# EAGLE library part XCV2000E_FG680 (library xilinx-xcv)
xcv2000e_fg680 edit this description Auto generated by make-symbol-device-package-bsdl.ulp Rev. 26 Source: xcv2000e_fg680.bsd
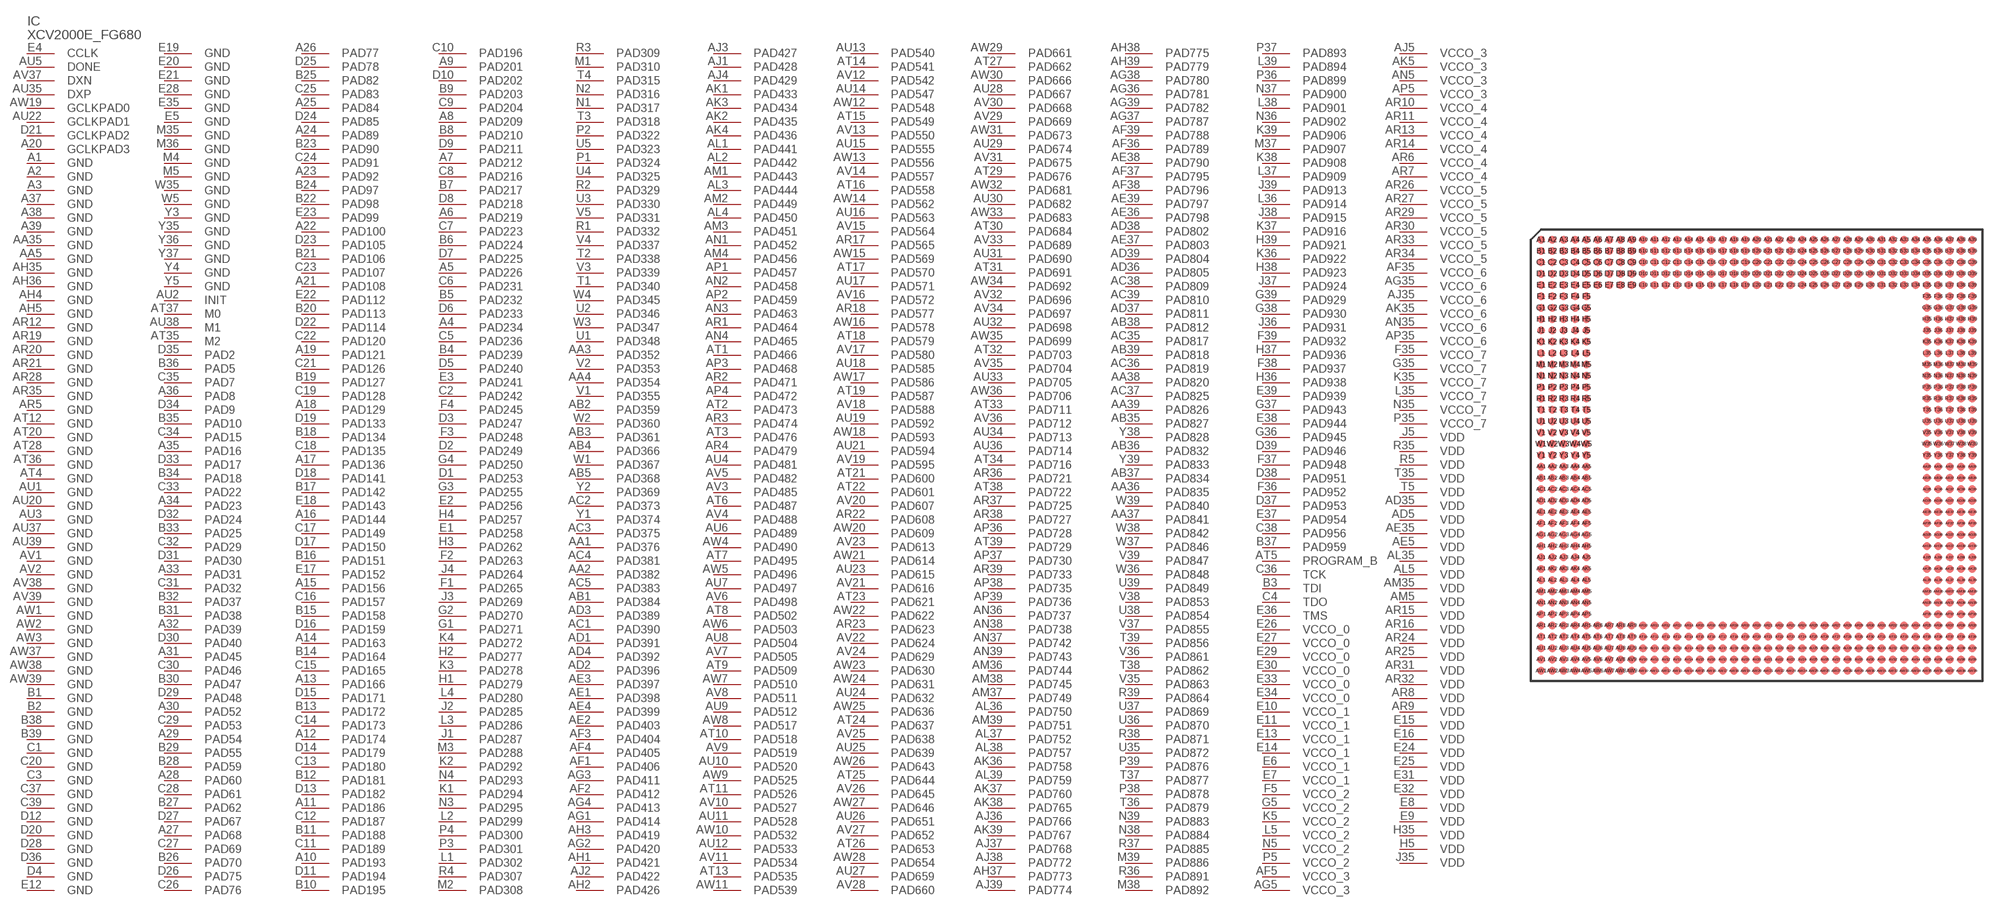
[diagram p51: symbol with the pads of FG680; footprint FG680]

Designator prefix IC

## XCV2000E_FG680 (OC_FARNELL: unknown; OC_NEWARK: unknown)  [FG680]
A1  GND  pwr
A2  GND  pwr
A3  GND  pwr
A4  PAD234
A5  PAD226
A6  PAD219
A7  PAD212
A8  PAD209
A9  PAD201
A10  PAD193
A11  PAD186
A12  PAD174
A13  PAD166
A14  PAD163
A15  PAD156
A16  PAD144
A17  PAD136
A18  PAD129
A19  PAD121
A20  GCLKPAD3  in
A21  PAD108
A22  PAD100
A23  PAD92
A24  PAD89
A25  PAD84
A26  PAD77
A27  PAD68
A28  PAD60
A29  PAD54
A30  PAD52
A31  PAD45
A32  PAD39
A33  PAD31
A34  PAD23
A35  PAD16
A36  PAD8
A37  GND  pwr
A38  GND  pwr
A39  GND  pwr
AA1  PAD376
AA2  PAD382
AA3  PAD352
AA4  PAD354
AA5  GND  pwr
AA35  GND  pwr
AA36  PAD835
AA37  PAD841
AA38  PAD820
AA39  PAD826
AB1  PAD384
AB2  PAD359
AB3  PAD361
AB4  PAD366
AB5  PAD368
AB35  PAD827
AB36  PAD832
AB37  PAD834
AB38  PAD812
AB39  PAD818
AC1  PAD390
AC2  PAD373
AC3  PAD375
AC4  PAD381
AC5  PAD383
AC35  PAD817
AC36  PAD819
AC37  PAD825
AC38  PAD809
AC39  PAD810
AD1  PAD391
AD2  PAD396
AD3  PAD389
AD4  PAD392
AD5  VDD  pwr
AD35  VDD  pwr
AD36  PAD805
AD37  PAD811
AD38  PAD802
AD39  PAD804
AE1  PAD398
AE2  PAD403
AE3  PAD397
AE4  PAD399
AE5  VDD  pwr
AE35  VDD  pwr
AE36  PAD798
AE37  PAD803
AE38  PAD790
AE39  PAD797
AF1  PAD406
AF2  PAD412
AF3  PAD404
AF4  PAD405
AF5  VCCO_3  pwr
AF35  VCCO_6  pwr
AF36  PAD789
AF37  PAD795
AF38  PAD796
AF39  PAD788
AG1  PAD414
AG2  PAD420
AG3  PAD411
AG4  PAD413
AG5  VCCO_3  pwr
AG35  VCCO_6  pwr
AG36  PAD781
AG37  PAD787
AG38  PAD780
AG39  PAD782
AH1  PAD421
AH2  PAD426
AH3  PAD419
AH4  GND  pwr
AH5  GND  pwr
AH35  GND  pwr
AH36  GND  pwr
AH37  PAD773
AH38  PAD775
AH39  PAD779
AJ1  PAD428
AJ2  PAD422
AJ3  PAD427
AJ4  PAD429
AJ5  VCCO_3  pwr
AJ35  VCCO_6  pwr
AJ36  PAD766
AJ37  PAD768
AJ38  PAD772
AJ39  PAD774
AK1  PAD433
AK2  PAD435
AK3  PAD434
AK4  PAD436
AK5  VCCO_3  pwr
AK35  VCCO_6  pwr
AK36  PAD758
AK37  PAD760
AK38  PAD765
AK39  PAD767
AL1  PAD441
AL2  PAD442
AL3  PAD444
AL4  PAD450
AL5  VDD  pwr
AL35  VDD  pwr
AL36  PAD750
AL37  PAD752
AL38  PAD757
AL39  PAD759
AM1  PAD443
AM2  PAD449
AM3  PAD451
AM4  PAD456
AM5  VDD  pwr
AM35  VDD  pwr
AM36  PAD744
AM37  PAD749
AM38  PAD745
AM39  PAD751
AN1  PAD452
AN2  PAD458
AN3  PAD463
AN4  PAD465
AN5  VCCO_3  pwr
AN35  VCCO_6  pwr
AN36  PAD737
AN37  PAD742
AN38  PAD738
AN39  PAD743
AP1  PAD457
AP2  PAD459
AP3  PAD468
AP4  PAD472
AP5  VCCO_3  pwr
AP35  VCCO_6  pwr
AP36  PAD728
AP37  PAD730
AP38  PAD735
AP39  PAD736
AR1  PAD464
AR2  PAD471
AR3  PAD474
AR4  PAD479
AR5  GND  pwr
AR6  VCCO_4  pwr
AR7  VCCO_4  pwr
AR8  VDD  pwr
AR9  VDD  pwr
AR10  VCCO_4  pwr
AR11  VCCO_4  pwr
AR12  GND  pwr
AR13  VCCO_4  pwr
AR14  VCCO_4  pwr
AR15  VDD  pwr
AR16  VDD  pwr
AR17  PAD565
AR18  PAD577
AR19  GND  pwr
AR20  GND  pwr
AR21  GND  pwr
AR22  PAD608
AR23  PAD623
AR24  VDD  pwr
AR25  VDD  pwr
AR26  VCCO_5  pwr
AR27  VCCO_5  pwr
AR28  GND  pwr
AR29  VCCO_5  pwr
AR30  VCCO_5  pwr
AR31  VDD  pwr
AR32  VDD  pwr
AR33  VCCO_5  pwr
AR34  VCCO_5  pwr
AR35  GND  pwr
AR36  PAD721
AR37  PAD725
AR38  PAD727
AR39  PAD733
AT1  PAD466
AT2  PAD473
AT3  PAD476
AT4  GND  pwr
AT5  PROGRAM_B  in
AT6  PAD487
AT7  PAD495
AT8  PAD502
AT9  PAD509
AT10  PAD518
AT11  PAD526
AT12  GND  pwr
AT13  PAD535
AT14  PAD541
AT15  PAD549
AT16  PAD558
AT17  PAD570
AT18  PAD579
AT19  PAD587
AT20  GND  pwr
AT21  PAD600
AT22  PAD601
AT23  PAD621
AT24  PAD637
AT25  PAD644
AT26  PAD653
AT27  PAD662
AT28  GND  pwr
AT29  PAD676
AT30  PAD684
AT31  PAD691
AT32  PAD703
AT33  PAD711
AT34  PAD716
AT35  M2  in
AT36  GND  pwr
AT37  M0  in
AT38  PAD722
AT39  PAD729
AU1  GND  pwr
AU2  INIT
AU3  GND  pwr
AU4  PAD481
AU5  DONE
AU6  PAD489
AU7  PAD497
AU8  PAD504
AU9  PAD512
AU10  PAD520
AU11  PAD528
AU12  PAD533
AU13  PAD540
AU14  PAD547
AU15  PAD555
AU16  PAD563
AU17  PAD571
AU18  PAD585
AU19  PAD592
AU20  GND  pwr
AU21  PAD594
AU22  GCLKPAD1  in
AU23  PAD615
AU24  PAD632
AU25  PAD639
AU26  PAD651
AU27  PAD659
AU28  PAD667
AU29  PAD674
AU30  PAD682
AU31  PAD690
AU32  PAD698
AU33  PAD705
AU34  PAD713
AU35  DXP  pas
AU36  PAD714
AU37  GND  pwr
AU38  M1  in
AU39  GND  pwr
AV1  GND  pwr
AV2  GND  pwr
AV3  PAD485
AV4  PAD488
AV5  PAD482
AV6  PAD498
AV7  PAD505
AV8  PAD511
AV9  PAD519
AV10  PAD527
AV11  PAD534
AV12  PAD542
AV13  PAD550
AV14  PAD557
AV15  PAD564
AV16  PAD572
AV17  PAD580
AV18  PAD588
AV19  PAD595
AV20  PAD607
AV21  PAD616
AV22  PAD624
AV23  PAD613
AV24  PAD629
AV25  PAD638
AV26  PAD645
AV27  PAD652
AV28  PAD660
AV29  PAD669
AV30  PAD668
AV31  PAD675
AV32  PAD696
AV33  PAD689
AV34  PAD697
AV35  PAD704
AV36  PAD712
AV37  DXN  pas
AV38  GND  pwr
AV39  GND  pwr
AW1  GND  pwr
AW2  GND  pwr
AW3  GND  pwr
AW4  PAD490
AW5  PAD496
AW6  PAD503
AW7  PAD510
AW8  PAD517
AW9  PAD525
AW10  PAD532
AW11  PAD539
AW12  PAD548
AW13  PAD556
AW14  PAD562
AW15  PAD569
AW16  PAD578
AW17  PAD586
AW18  PAD593
AW19  GCLKPAD0  in
AW20  PAD609
AW21  PAD614
AW22  PAD622
AW23  PAD630
AW24  PAD631
AW25  PAD636
AW26  PAD643
AW27  PAD646
AW28  PAD654
AW29  PAD661
AW30  PAD666
AW31  PAD673
AW32  PAD681
AW33  PAD683
AW34  PAD692
AW35  PAD699
AW36  PAD706
AW37  GND  pwr
AW38  GND  pwr
AW39  GND  pwr
B1  GND  pwr
B2  GND  pwr
B3  TDI  in
B4  PAD239
B5  PAD232
B6  PAD224
B7  PAD217
B8  PAD210
B9  PAD203
B10  PAD195
B11  PAD188
B12  PAD181
B13  PAD172
B14  PAD164
B15  PAD158
B16  PAD151
B17  PAD142
B18  PAD134
B19  PAD127
B20  PAD113
B21  PAD106
B22  PAD98
B23  PAD90
B24  PAD97
B25  PAD82
B26  PAD70
B27  PAD62
B28  PAD59
B29  PAD55
B30  PAD47
B31  PAD38
B32  PAD37
B33  PAD25
B34  PAD18
B35  PAD10
B36  PAD5
B37  PAD959
B38  GND  pwr
B39  GND  pwr
C1  GND  pwr
C2  PAD242
C3  GND  pwr
C4  TDO  out
C5  PAD236
C6  PAD231
C7  PAD223
C8  PAD216
C9  PAD204
C10  PAD196
C11  PAD189
C12  PAD187
C13  PAD180
C14  PAD173
C15  PAD165
C16  PAD157
C17  PAD149
C18  PAD135
C19  PAD128
C20  GND  pwr
C21  PAD126
C22  PAD120
C23  PAD107
C24  PAD91
C25  PAD83
C26  PAD76
C27  PAD69
C28  PAD61
C29  PAD53
C30  PAD46
C31  PAD32
C32  PAD29
C33  PAD22
C34  PAD15
C35  PAD7
C36  TCK  in
C37  GND  pwr
C38  PAD956
C39  GND  pwr
D1  PAD253
D2  PAD249
D3  PAD247
D4  GND  pwr
D5  PAD240
D6  PAD233
D7  PAD225
D8  PAD218
D9  PAD211
D10  PAD202
D11  PAD194
D12  GND  pwr
D13  PAD182
D14  PAD179
D15  PAD171
D16  PAD159
D17  PAD150
D18  PAD141
D19  PAD133
D20  GND  pwr
D21  GCLKPAD2  in
D22  PAD114
D23  PAD105
D24  PAD85
D25  PAD78
D26  PAD75
D27  PAD67
D28  GND  pwr
D29  PAD48
D30  PAD40
D31  PAD30
D32  PAD24
D33  PAD17
D34  PAD9
D35  PAD2
D36  GND  pwr
D37  PAD953
D38  PAD951
D39  PAD946
E1  PAD258
E2  PAD256
E3  PAD241
E4  CCLK
E5  GND  pwr
E6  VCCO_1  pwr
E7  VCCO_1  pwr
E8  VDD  pwr
E9  VDD  pwr
E10  VCCO_1  pwr
E11  VCCO_1  pwr
E12  GND  pwr
E13  VCCO_1  pwr
E14  VCCO_1  pwr
E15  VDD  pwr
E16  VDD  pwr
E17  PAD152
E18  PAD143
E19  GND  pwr
E20  GND  pwr
E21  GND  pwr
E22  PAD112
E23  PAD99
E24  VDD  pwr
E25  VDD  pwr
E26  VCCO_0  pwr
E27  VCCO_0  pwr
E28  GND  pwr
E29  VCCO_0  pwr
E30  VCCO_0  pwr
E31  VDD  pwr
E32  VDD  pwr
E33  VCCO_0  pwr
E34  VCCO_0  pwr
E35  GND  pwr
E36  TMS  in
E37  PAD954
E38  PAD944
E39  PAD939
F1  PAD265
F2  PAD263
F3  PAD248
F4  PAD245
F5  VCCO_2  pwr
F35  VCCO_7  pwr
F36  PAD952
F37  PAD948
F38  PAD937
F39  PAD932
G1  PAD271
G2  PAD270
G3  PAD255
G4  PAD250
G5  VCCO_2  pwr
G35  VCCO_7  pwr
G36  PAD945
G37  PAD943
G38  PAD930
G39  PAD929
H1  PAD279
H2  PAD277
H3  PAD262
H4  PAD257
H5  VDD  pwr
H35  VDD  pwr
H36  PAD938
H37  PAD936
H38  PAD923
H39  PAD921
J1  PAD287
J2  PAD285
J3  PAD269
J4  PAD264
J5  VDD  pwr
J35  VDD  pwr
J36  PAD931
J37  PAD924
J38  PAD915
J39  PAD913
K1  PAD294
K2  PAD292
K3  PAD278
K4  PAD272
K5  VCCO_2  pwr
K35  VCCO_7  pwr
K36  PAD922
K37  PAD916
K38  PAD908
K39  PAD906
L1  PAD302
L2  PAD299
L3  PAD286
L4  PAD280
L5  VCCO_2  pwr
L35  VCCO_7  pwr
L36  PAD914
L37  PAD909
L38  PAD901
L39  PAD894
M1  PAD310
M2  PAD308
M3  PAD288
M4  GND  pwr
M5  GND  pwr
M35  GND  pwr
M36  GND  pwr
M37  PAD907
M38  PAD892
M39  PAD886
N1  PAD317
N2  PAD316
N3  PAD295
N4  PAD293
N5  VCCO_2  pwr
N35  VCCO_7  pwr
N36  PAD902
N37  PAD900
N38  PAD884
N39  PAD883
P1  PAD324
P2  PAD322
P3  PAD301
P4  PAD300
P5  VCCO_2  pwr
P35  VCCO_7  pwr
P36  PAD899
P37  PAD893
P38  PAD878
P39  PAD876
R1  PAD332
R2  PAD329
R3  PAD309
R4  PAD307
R5  VDD  pwr
R35  VDD  pwr
R36  PAD891
R37  PAD885
R38  PAD871
R39  PAD864
T1  PAD340
T2  PAD338
T3  PAD318
T4  PAD315
T5  VDD  pwr
T35  VDD  pwr
T36  PAD879
T37  PAD877
T38  PAD862
T39  PAD856
U1  PAD348
U2  PAD346
U3  PAD330
U4  PAD325
U5  PAD323
U35  PAD872
U36  PAD870
U37  PAD869
U38  PAD854
U39  PAD849
V1  PAD355
V2  PAD353
V3  PAD339
V4  PAD337
V5  PAD331
V35  PAD863
V36  PAD861
V37  PAD855
V38  PAD853
V39  PAD847
W1  PAD367
W2  PAD360
W3  PAD347
W4  PAD345
W5  GND  pwr
W35  GND  pwr
W36  PAD848
W37  PAD846
W38  PAD842
W39  PAD840
Y1  PAD374
Y2  PAD369
Y3  GND  pwr
Y4  GND  pwr
Y5  GND  pwr
Y35  GND  pwr
Y36  GND  pwr
Y37  GND  pwr
Y38  PAD828
Y39  PAD833

## Footprint FG680 (pad centres in mm)
xcv1000_fg680_1532 edit this description Auto generated by make-symbol-device-package-bsdl.ulp Rev. 26 Source: xcv1000_fg680_1532.bsd
smd 0.7 x 0.7: A1 -19,19; A2 -18,19; A3 -17,19; A4 -16,19; A5 -15,19; A6 -14,19; A7 -13,19; A8 -12,19; A9 -11,19; A10 -10,19; A11 -9,19; A12 -8,19; A13 -7,19; A14 -6,19; A15 -5,19; A16 -4,19; A17 -3,19; A18 -2,19; A19 -1,19; A20 0,19; A21 1,19; A22 2,19; A23 3,19; A24 4,19; A25 5,19; A26 6,19; A27 7,19; A28 8,19; A29 9,19; A30 10,19; A31 11,19; A32 12,19; A33 13,19; A34 14,19; A35 15,19; A36 16,19; A37 17,19; A38 18,19; A39 19,19; AA1 -19,-1; AA2 -18,-1; AA3 -17,-1; AA4 -16,-1; AA5 -15,-1; AA35 15,-1; AA36 16,-1; AA37 17,-1; AA38 18,-1; AA39 19,-1; AB1 -19,-2; AB2 -18,-2; AB3 -17,-2; AB4 -16,-2; AB5 -15,-2; AB35 15,-2; AB36 16,-2; AB37 17,-2; AB38 18,-2; AB39 19,-2; AC1 -19,-3; AC2 -18,-3; AC3 -17,-3; AC4 -16,-3; AC5 -15,-3; AC35 15,-3; AC36 16,-3; AC37 17,-3; AC38 18,-3; AC39 19,-3; AD1 -19,-4; AD2 -18,-4; AD3 -17,-4; AD4 -16,-4; AD5 -15,-4; AD35 15,-4; AD36 16,-4; AD37 17,-4; AD38 18,-4; AD39 19,-4; AE1 -19,-5; AE2 -18,-5; AE3 -17,-5; AE4 -16,-5; AE5 -15,-5; AE35 15,-5; AE36 16,-5; AE37 17,-5; AE38 18,-5; AE39 19,-5; AF1 -19,-6; AF2 -18,-6; AF3 -17,-6; AF4 -16,-6; AF5 -15,-6; AF35 15,-6; AF36 16,-6; AF37 17,-6; AF38 18,-6; AF39 19,-6; AG1 -19,-7; AG2 -18,-7; AG3 -17,-7; AG4 -16,-7; AG5 -15,-7; AG35 15,-7; AG36 16,-7; AG37 17,-7; AG38 18,-7; AG39 19,-7; AH1 -19,-8; AH2 -18,-8; AH3 -17,-8; AH4 -16,-8; AH5 -15,-8; AH35 15,-8; AH36 16,-8; AH37 17,-8; AH38 18,-8; AH39 19,-8; AJ1 -19,-9; AJ2 -18,-9; AJ3 -17,-9; AJ4 -16,-9; AJ5 -15,-9; AJ35 15,-9; AJ36 16,-9; AJ37 17,-9; AJ38 18,-9; AJ39 19,-9; AK1 -19,-10; AK2 -18,-10; AK3 -17,-10; AK4 -16,-10; AK5 -15,-10; AK35 15,-10; AK36 16,-10; AK37 17,-10; AK38 18,-10; AK39 19,-10; AL1 -19,-11; AL2 -18,-11; AL3 -17,-11; AL4 -16,-11; AL5 -15,-11; AL35 15,-11; AL36 16,-11; AL37 17,-11; AL38 18,-11; AL39 19,-11; AM1 -19,-12; AM2 -18,-12; AM3 -17,-12; AM4 -16,-12; AM5 -15,-12; AM35 15,-12; AM36 16,-12; AM37 17,-12; AM38 18,-12; AM39 19,-12; AN1 -19,-13; AN2 -18,-13; AN3 -17,-13; AN4 -16,-13; AN5 -15,-13; AN35 15,-13; AN36 16,-13; AN37 17,-13; AN38 18,-13; AN39 19,-13; AP1 -19,-14; AP2 -18,-14; AP3 -17,-14; AP4 -16,-14; AP5 -15,-14; AP35 15,-14; AP36 16,-14; AP37 17,-14; AP38 18,-14; AP39 19,-14; AR1 -19,-15; AR2 -18,-15; AR3 -17,-15; AR4 -16,-15; AR5 -15,-15; AR6 -14,-15; AR7 -13,-15; AR8 -12,-15; AR9 -11,-15; AR10 -10,-15; AR11 -9,-15; AR12 -8,-15; AR13 -7,-15; AR14 -6,-15; AR15 -5,-15; AR16 -4,-15; AR17 -3,-15; AR18 -2,-15; AR19 -1,-15; AR20 0,-15; AR21 1,-15; AR22 2,-15; AR23 3,-15; AR24 4,-15; AR25 5,-15; AR26 6,-15; AR27 7,-15; AR28 8,-15; AR29 9,-15; AR30 10,-15; AR31 11,-15; AR32 12,-15; AR33 13,-15; AR34 14,-15; AR35 15,-15; AR36 16,-15; AR37 17,-15; AR38 18,-15; AR39 19,-15; AT1 -19,-16; AT2 -18,-16; AT3 -17,-16; AT4 -16,-16; AT5 -15,-16; AT6 -14,-16; AT7 -13,-16; AT8 -12,-16; AT9 -11,-16; AT10 -10,-16; AT11 -9,-16; AT12 -8,-16; AT13 -7,-16; AT14 -6,-16; AT15 -5,-16; AT16 -4,-16; AT17 -3,-16; AT18 -2,-16; AT19 -1,-16; AT20 0,-16; AT21 1,-16; AT22 2,-16; AT23 3,-16; AT24 4,-16; AT25 5,-16; AT26 6,-16; AT27 7,-16; AT28 8,-16; AT29 9,-16; AT30 10,-16; AT31 11,-16; AT32 12,-16; AT33 13,-16; AT34 14,-16; AT35 15,-16; AT36 16,-16; AT37 17,-16; AT38 18,-16; AT39 19,-16; AU1 -19,-17; AU2 -18,-17; AU3 -17,-17; AU4 -16,-17; AU5 -15,-17; AU6 -14,-17; AU7 -13,-17; AU8 -12,-17; AU9 -11,-17; AU10 -10,-17; AU11 -9,-17; AU12 -8,-17; AU13 -7,-17; AU14 -6,-17; AU15 -5,-17; AU16 -4,-17; AU17 -3,-17; AU18 -2,-17; AU19 -1,-17; AU20 0,-17; AU21 1,-17; AU22 2,-17; AU23 3,-17; AU24 4,-17; AU25 5,-17; AU26 6,-17; AU27 7,-17; AU28 8,-17; AU29 9,-17; AU30 10,-17; AU31 11,-17; AU32 12,-17; AU33 13,-17; AU34 14,-17; AU35 15,-17; AU36 16,-17; AU37 17,-17; AU38 18,-17; AU39 19,-17; AV1 -19,-18; AV2 -18,-18; AV3 -17,-18; AV4 -16,-18; AV5 -15,-18; AV6 -14,-18; AV7 -13,-18; AV8 -12,-18; AV9 -11,-18; AV10 -10,-18; AV11 -9,-18; AV12 -8,-18; AV13 -7,-18; AV14 -6,-18; AV15 -5,-18; AV16 -4,-18; AV17 -3,-18; AV18 -2,-18; AV19 -1,-18; AV20 0,-18; AV21 1,-18; AV22 2,-18; AV23 3,-18; AV24 4,-18; AV25 5,-18; AV26 6,-18; AV27 7,-18; AV28 8,-18; AV29 9,-18; AV30 10,-18; AV31 11,-18; AV32 12,-18; AV33 13,-18; AV34 14,-18; AV35 15,-18; AV36 16,-18; AV37 17,-18; AV38 18,-18; AV39 19,-18; AW1 -19,-19; AW2 -18,-19; AW3 -17,-19; AW4 -16,-19; AW5 -15,-19; AW6 -14,-19; AW7 -13,-19; AW8 -12,-19; AW9 -11,-19; AW10 -10,-19; AW11 -9,-19; AW12 -8,-19; AW13 -7,-19; AW14 -6,-19; AW15 -5,-19; AW16 -4,-19; AW17 -3,-19; AW18 -2,-19; AW19 -1,-19; AW20 0,-19; AW21 1,-19; AW22 2,-19; AW23 3,-19; AW24 4,-19; AW25 5,-19; AW26 6,-19; AW27 7,-19; AW28 8,-19; AW29 9,-19; AW30 10,-19; AW31 11,-19; AW32 12,-19; AW33 13,-19; AW34 14,-19; AW35 15,-19; AW36 16,-19; AW37 17,-19; AW38 18,-19; AW39 19,-19; B1 -19,18; B2 -18,18; B3 -17,18; B4 -16,18; B5 -15,18; B6 -14,18; B7 -13,18; B8 -12,18; B9 -11,18; B10 -10,18; B11 -9,18; B12 -8,18; B13 -7,18; B14 -6,18; B15 -5,18; B16 -4,18; B17 -3,18; B18 -2,18; B19 -1,18; B20 0,18; B21 1,18; B22 2,18; B23 3,18; B24 4,18; B25 5,18; B26 6,18; B27 7,18; B28 8,18; B29 9,18; B30 10,18; B31 11,18; B32 12,18; B33 13,18; B34 14,18; B35 15,18; B36 16,18; B37 17,18; B38 18,18; B39 19,18; C1 -19,17; C2 -18,17; C3 -17,17; C4 -16,17; C5 -15,17; C6 -14,17; C7 -13,17; C8 -12,17; C9 -11,17; C10 -10,17; C11 -9,17; C12 -8,17; C13 -7,17; C14 -6,17; C15 -5,17; C16 -4,17; C17 -3,17; C18 -2,17; C19 -1,17; C20 0,17; C21 1,17; C22 2,17; C23 3,17; C24 4,17; C25 5,17; C26 6,17; C27 7,17; C28 8,17; C29 9,17; C30 10,17; C31 11,17; C32 12,17; C33 13,17; C34 14,17; C35 15,17; C36 16,17; C37 17,17; C38 18,17; C39 19,17; D1 -19,16; D2 -18,16; D3 -17,16; D4 -16,16; D5 -15,16; D6 -14,16; D7 -13,16; D8 -12,16; D9 -11,16; D10 -10,16; D11 -9,16; D12 -8,16; D13 -7,16; D14 -6,16; D15 -5,16; D16 -4,16; D17 -3,16; D18 -2,16; D19 -1,16; D20 0,16; D21 1,16; D22 2,16; D23 3,16; D24 4,16; D25 5,16; D26 6,16; D27 7,16; D28 8,16; D29 9,16; D30 10,16; D31 11,16; D32 12,16; D33 13,16; D34 14,16; D35 15,16; D36 16,16; D37 17,16; D38 18,16; D39 19,16; E1 -19,15; E2 -18,15; E3 -17,15; E4 -16,15; E5 -15,15; E6 -14,15; E7 -13,15; E8 -12,15; E9 -11,15; E10 -10,15; E11 -9,15; E12 -8,15; E13 -7,15; E14 -6,15; E15 -5,15; E16 -4,15; E17 -3,15; E18 -2,15; E19 -1,15; E20 0,15; E21 1,15; E22 2,15; E23 3,15; E24 4,15; E25 5,15; E26 6,15; E27 7,15; E28 8,15; E29 9,15; E30 10,15; E31 11,15; E32 12,15; E33 13,15; E34 14,15; E35 15,15; E36 16,15; E37 17,15; E38 18,15; E39 19,15; F1 -19,14; F2 -18,14; F3 -17,14; F4 -16,14; F5 -15,14; F35 15,14; F36 16,14; F37 17,14; F38 18,14; F39 19,14; G1 -19,13; G2 -18,13; G3 -17,13; G4 -16,13; G5 -15,13; G35 15,13; G36 16,13; G37 17,13; G38 18,13; G39 19,13; H1 -19,12; H2 -18,12; H3 -17,12; H4 -16,12; H5 -15,12; H35 15,12; H36 16,12; H37 17,12; H38 18,12; H39 19,12; J1 -19,11; J2 -18,11; J3 -17,11; J4 -16,11; J5 -15,11; J35 15,11; J36 16,11; J37 17,11; J38 18,11; J39 19,11; K1 -19,10; K2 -18,10; K3 -17,10; K4 -16,10; K5 -15,10; K35 15,10; K36 16,10; K37 17,10; K38 18,10; K39 19,10; L1 -19,9; L2 -18,9; L3 -17,9; L4 -16,9; L5 -15,9; L35 15,9; L36 16,9; L37 17,9; L38 18,9; L39 19,9; M1 -19,8; M2 -18,8; M3 -17,8; M4 -16,8; M5 -15,8; M35 15,8; M36 16,8; M37 17,8; M38 18,8; M39 19,8; N1 -19,7; N2 -18,7; N3 -17,7; N4 -16,7; N5 -15,7; N35 15,7; N36 16,7; N37 17,7; N38 18,7; N39 19,7; P1 -19,6; P2 -18,6; P3 -17,6; P4 -16,6; P5 -15,6; P35 15,6; P36 16,6; P37 17,6; P38 18,6; P39 19,6; R1 -19,5; R2 -18,5; R3 -17,5; R4 -16,5; R5 -15,5; R35 15,5; R36 16,5; R37 17,5; R38 18,5; R39 19,5; T1 -19,4; T2 -18,4; T3 -17,4; T4 -16,4; T5 -15,4; T35 15,4; T36 16,4; T37 17,4; T38 18,4; T39 19,4; U1 -19,3; U2 -18,3; U3 -17,3; U4 -16,3; U5 -15,3; U35 15,3; U36 16,3; U37 17,3; U38 18,3; U39 19,3; V1 -19,2; V2 -18,2; V3 -17,2; V4 -16,2; V5 -15,2; V35 15,2; V36 16,2; V37 17,2; V38 18,2; V39 19,2; W1 -19,1; W2 -18,1; W3 -17,1; W4 -16,1; W5 -15,1; W35 15,1; W36 16,1; W37 17,1; W38 18,1; W39 19,1; Y1 -19,0; Y2 -18,0; Y3 -17,0; Y4 -16,0; Y5 -15,0; Y35 15,0; Y36 16,0; Y37 17,0; Y38 18,0; Y39 19,0